# EAGLE library part ATTINY85 (library radio-tracker)
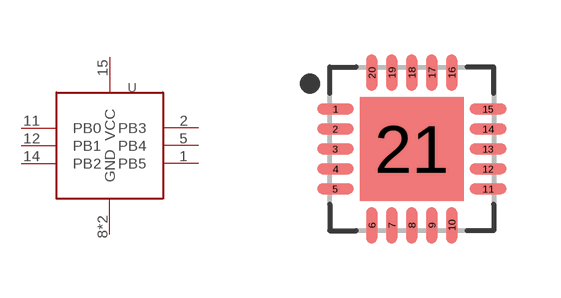
[diagram p1: symbol with the pads of ATTINY85; footprint ATTINY85]

Designator prefix U

## ATTINY85  [ATTINY85]
1  PB5
2  PB3
5  PB4
8  GND  pas
11  PB0
12  PB1
14  PB2
15  VCC  pwr
21  GND  pas

## Footprint ATTINY85 (pad centres in mm)
20-QFN, 0.50 mm pitch, 4.00 X 4.00 X 0.80 mm body, 2.60 X 2.60 mm thermal pad 20-pin QFN package with 0.50 mm pitch with body size 4.00 X 4.00 X 0.80 mm and thermal pad size 2.60 X 2.60 mm
smd 0.91 x 0.27: 1 -1.91,1; 2 -1.91,0.5; 3 -1.91,0; 4 -1.91,-0.5; 5 -1.91,-1; 11 1.91,-1; 12 1.91,-0.5; 13 1.91,0; 14 1.91,0.5; 15 1.91,1
smd 0.27 x 0.91: 6 -1,-1.91; 7 -0.5,-1.91; 8 0,-1.91; 9 0.5,-1.91; 10 1,-1.91; 16 1,1.91; 17 0.5,1.91; 18 0,1.91; 19 -0.5,1.91; 20 -1,1.91
smd 2.6 x 2.6: 21 0,0